# Altium footprint library 2sb688.PcbLib: 1 footprints
Each footprint in its own frame and in the unit in brackets; x right, y up, seen from the top. Pads: shape width x height; smd on the part's side, far side on the other; paste and mask are expansions set on the pad; w line width, h text height; cw(c..) or ccw(c..) is an arc to the next point about the centre after c.
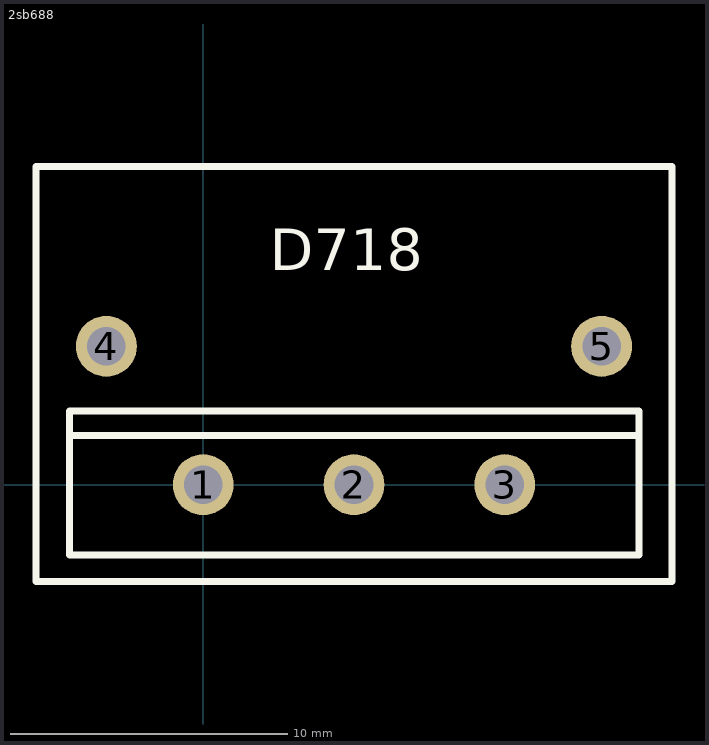
[diagram p0: the footprint, top view; thin cyan lines are the x and y axes]

## 2sb688 [mm]
pads (5):
  round 2.2 hole 1.4: 1(0,0) 2(5.45,0) 3(10.9,0) 4(-3.5,5) 5(14.4,5)
Top Overlay:
  lines w0.254: -4.826,1.778 15.748,1.778 ; -6.05,-3.5 -6.05,11.5 16.95,11.5 16.95,-3.5 -6.05,-3.5 ; -4.826,-2.54 15.748,-2.54 15.748,2.667 -4.826,2.667 -4.826,-2.54
  text "D718" at 2.413,7.747 h1.5
3D body: height 0.25, standoff 0, extent 3.81,0.762 3.81,0.762